# Altium footprint library WE-OLEE.PcbLib: 4 footprints
Each footprint in its own frame and in the unit in brackets; x right, y up, seen from the top. Pads: shape width x height; smd on the part's side, far side on the other; paste and mask are expansions set on the pad; w line width, h text height; cw(c..) or ccw(c..) is an arc to the next point about the centre after c.
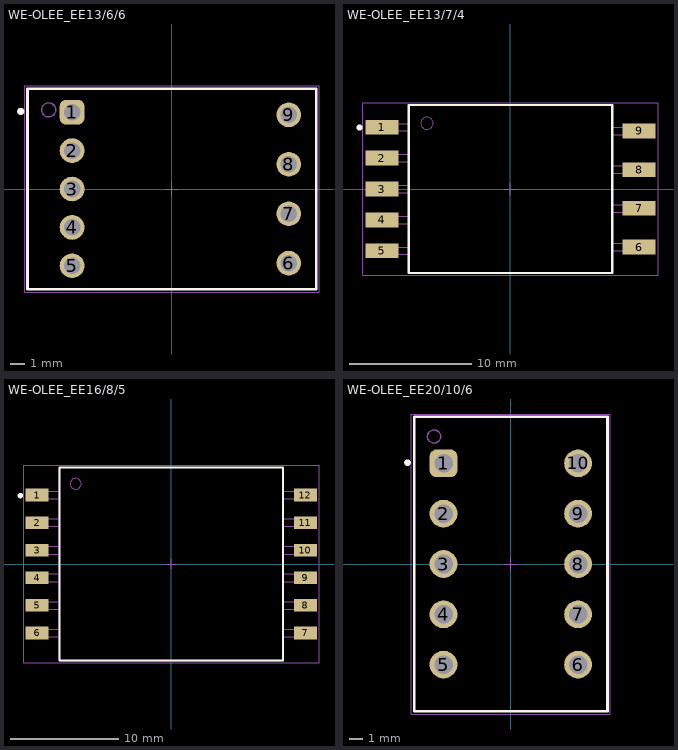
[diagram p0: the footprints below, top view; thin cyan lines are the x and y axes]

## WE-OLEE_EE13/6/6 [mm] "Offline Flyback Transformer, THT, body 20.45 x 14.20 mm"
height 14.6
pads (9):
  rrect50% 1.75x1.75 hole 1.17: 1(-7.065,5.44)
  round 1.75 hole 1.17: 2(-7.065,2.72) 3(-7.065,0) 4(-7.065,-2.72) 5(-7.065,-5.44) 6(8.285,-5.25) 7(8.285,-1.75) 8(8.285,1.75) 9(8.285,5.25)
Top Overlay:
  circle w0.25: c-10.7,5.5 r0.125
  lines w0.2: -10.225,-7.1 10.225,-7.1 10.225,7.1 -10.225,7.1 -10.225,-7.1
Top Designator:
  text ".Designator" at -7.498,-0.5 h1.5
Top Component Outline:
  circle w0.1: c-8.725,5.6 r0.5
  lines w0.1: -10.225,-7.1 10.225,-7.1 10.225,7.1 -10.225,7.1 -10.225,-7.1
Top Courtyard:
  lines w0.05: -0.5,0 0.5,0 ; 0,-0.5 0,0.5 ; -10.425,-7.3 10.425,-7.3 10.425,7.3 -10.425,7.3 -10.425,-7.3
3D body "Download_STP_070-6167 (rev1).STEP": height 14.06, standoff -2.4, extent -9.745,-6.815 9.755,6.815

## WE-OLEE_EE13/7/4 [mm] "Offline Flyback Transformer, SMT, body 23.90 x 13.80 mm"
height 11
pads (9):
  rect 2.72x1.21 smd: 1(-10.56,5.08) 2(-10.56,2.54) 3(-10.56,0) 4(-10.56,-2.54) 5(-10.56,-5.08) 6(10.56,-4.77) 7(10.56,-1.59) 8(10.56,1.59) 9(10.56,4.77)
Top Overlay:
  circle w0.25: c-12.4,5.05 r0.125
  lines w0.2: -8.355,-6.9 -8.355,6.9 8.355,6.9 8.355,-6.9 -8.355,-6.9
Top Designator:
  text ".Designator" at -7.498,-0.5 h1.5
Top Component Outline:
  circle w0.1: c-6.855,5.4 r0.5
  lines w0.1: -8.355,-5.38 -11.305,-5.38 -11.305,-4.78 -8.355,-4.78 ; -8.355,-2.84 -11.305,-2.84 -11.305,-2.24 -8.355,-2.24 ; -8.355,-0.3 -11.305,-0.3 -11.305,0.3 -8.355,0.3 ; -8.355,2.24 -11.305,2.24 -11.305,2.84 -8.355,2.84 ; -8.355,4.78 -11.305,4.78 -11.305,5.38 -8.355,5.38 ; 8.355,-5.07 11.305,-5.07 11.305,-4.47 8.355,-4.47 ; 8.355,-1.89 11.305,-1.89 11.305,-1.29 8.355,-1.29 ; 8.355,1.29 11.305,1.29 11.305,1.89 8.355,1.89 ; 8.355,4.47 11.305,4.47 11.305,5.07 8.355,5.07 ; -8.355,-6.9 -8.355,6.9 8.355,6.9 8.355,-6.9 -8.355,-6.9
Top Courtyard:
  lines w0.05: -0.5,0 0.5,0 ; 0,-0.5 0,0.5 ; -12.12,-7.1 -12.12,7.1 12.12,7.1 12.12,-7.1 -12.12,-7.1
3D body "070-6258 (rev1).STEP": height 10.59, standoff 0.03, extent -11.305,-6.71 11.305,6.71

## WE-OLEE_EE16/8/5 [mm] "Offline Flyback Transformer, SMT, body 23.90 x 17.78 mm"
height 13.8
pads (12):
  rect 2.1x1.17 smd: 1(-12.36,6.35) 2(-12.36,3.81) 3(-12.36,1.27) 4(-12.36,-1.27) 5(-12.36,-3.81) 6(-12.36,-6.35) 7(12.36,-6.35) 8(12.36,-3.81) 9(12.36,-1.27) 10(12.36,1.27) 11(12.36,3.81) 12(12.36,6.35)
Top Overlay:
  circle w0.25: c-13.9,6.3 r0.125
  lines w0.2: -10.3,-8.89 10.3,-8.89 10.3,8.89 -10.3,8.89 -10.3,-8.89
Top Designator:
  text ".Designator" at -7.498,-0.5 h1.5
Top Component Outline:
  circle w0.1: c-8.8,7.39 r0.5
  lines w0.1: -10.3,-6.705 -12.88,-6.705 -12.88,-5.995 -10.3,-5.995 ; -10.3,-4.165 -12.88,-4.165 -12.88,-3.455 -10.3,-3.455 ; -10.3,-1.625 -12.88,-1.625 -12.88,-0.915 -10.3,-0.915 ; -10.3,0.915 -12.88,0.915 -12.88,1.625 -10.3,1.625 ; -10.3,3.455 -12.88,3.455 -12.88,4.165 -10.3,4.165 ; -10.3,5.995 -12.88,5.995 -12.88,6.705 -10.3,6.705 ; 10.3,-6.705 12.88,-6.705 12.88,-5.995 10.3,-5.995 ; 10.3,-4.165 12.88,-4.165 12.88,-3.455 10.3,-3.455 ; 10.3,-1.625 12.88,-1.625 12.88,-0.915 10.3,-0.915 ; 10.3,0.915 12.88,0.915 12.88,1.625 10.3,1.625 ; 10.3,3.455 12.88,3.455 12.88,4.165 10.3,4.165 ; 10.3,5.995 12.88,5.995 12.88,6.705 10.3,6.705 ; -10.3,-8.89 10.3,-8.89 10.3,8.89 -10.3,8.89 -10.3,-8.89
Top Courtyard:
  lines w0.05: -0.5,0 0.5,0 ; 0,-0.5 0,0.5 ; -13.61,-9.09 13.61,-9.09 13.61,9.09 -13.61,9.09 -13.61,-9.09
3D body "070-5642 (rev1).STEP": height 13.49, standoff 0, extent -12.88,-8.515 12.88,8.515

## WE-OLEE_EE20/10/6 [mm] "Offline Flyback Transformer, THT, body 14.60 x 22.25 mm"
height 23.24
pads (10):
  rrect50% 2.1x2.1 hole 1.4: 1(-5.08,7.6)
  round 2.1 hole 1.4: 2(-5.08,3.8) 3(-5.08,0) 4(-5.08,-3.8) 5(-5.08,-7.6) 6(5.08,-7.6) 7(5.08,-3.8) 8(5.08,0) 9(5.08,3.8) 10(5.08,7.6)
Top Overlay:
  circle w0.25: c-7.8,7.65 r0.125
  lines w0.2: -7.3,-11.125 -7.3,11.125 7.3,11.125 7.3,-11.125 -7.3,-11.125
Top Designator:
  text ".Designator" at -7.498,-0.5 h1.5
Top Component Outline:
  circle w0.1: c-5.8,9.625 r0.5
  lines w0.1: -7.3,-11.125 -7.3,11.125 7.3,11.125 7.3,-11.125 -7.3,-11.125
Top Courtyard:
  lines w0.05: -0.5,0 0.5,0 ; 0,-0.5 0,0.5 ; -7.5,-11.325 -7.5,11.325 7.5,11.325 7.5,-11.325 -7.5,-11.325
3D body "070-5248 (rev1).STEP": height 23.06, standoff -3.5, extent -6.95,-11 6.95,11